# Altium integrated library DR125-331-R.IntLib: 1 symbol
Pins are listed as number, name and electrical type; pins without a type are passive.

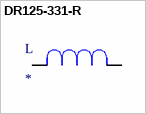
[diagram p0: symbol DR125-331-R]

## DR125-331-R
designator L
330ÂµH Shielded Wirewound Inductor 1.06A 482mOhm Nonstandard; MP: DR125-331-R; MF: Eaton; Price: None; Value: *; Package: Nonstandard Eaton; SnapEDA_Link: https://www.snapeda.com/parts/DR125-331-R/Eaton/view-part/578211/?ref=snap; Availability: Unavailable
footprint INDM125125X600N
pins: 1, 2